# EAGLE library part HEADER-3X16 (library pixhawk2)
3x16 servo header
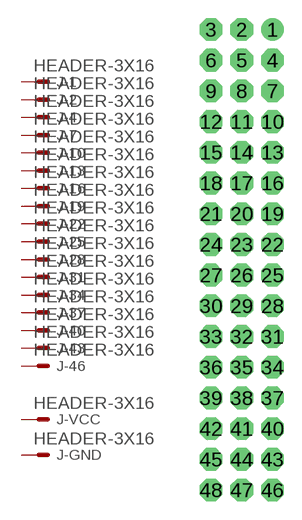
[diagram p91: symbol with the pads of 3X16RA; footprint 3X16RA]

Designator prefix J; gates -1=MV-1 -2=MV-1 -4=MV-1 -7=MV-1 -10=MV-1 -13=MV-1 -16=MV-1 -19=MV-1 -22=MV-1 -25=MV-1 -28=MV-1 -31=MV-1 -34=MV-1 -37=MV-1 -40=MV-1 -43=MV-1 -46=MV-1 -GND=MV-1 -VCC=MV-1

## HEADER-3X163X16RA  [3X16RA]
1  -1:S  pas
2  -2:S  pas
3  -GND:S  pas
4  -4:S  pas
5  -VCC:S  pas
6  -GND:S  pas
7  -7:S  pas
8  -VCC:S  pas
9  -GND:S  pas
10  -10:S  pas
11  -VCC:S  pas
12  -GND:S  pas
13  -13:S  pas
14  -VCC:S  pas
15  -GND:S  pas
16  -16:S  pas
17  -VCC:S  pas
18  -GND:S  pas
19  -19:S  pas
20  -VCC:S  pas
21  -GND:S  pas
22  -22:S  pas
23  -VCC:S  pas
24  -GND:S  pas
25  -25:S  pas
26  -VCC:S  pas
27  -GND:S  pas
28  -28:S  pas
29  -VCC:S  pas
30  -GND:S  pas
31  -31:S  pas
32  -VCC:S  pas
33  -GND:S  pas
34  -34:S  pas
35  -VCC:S  pas
36  -GND:S  pas
37  -37:S  pas
38  -VCC:S  pas
39  -GND:S  pas
40  -40:S  pas
41  -VCC:S  pas
42  -GND:S  pas
43  -43:S  pas
44  -VCC:S  pas
45  -GND:S  pas
46  -46:S  pas
47  -VCC:S  pas
48  -GND:S  pas

## Footprint 3X16RA (pad centres in mm)
drill 1.016 pad 1.88: 1 2.54,19.05
drill 1.016 pad 1.88 octagon: 2 0,19.05; 3 -2.54,19.05; 4 2.54,16.51; 5 0,16.51; 6 -2.54,16.51; 7 2.54,13.97; 8 0,13.97; 9 -2.54,13.97; 10 2.54,11.43; 11 0,11.43; 12 -2.54,11.43; 13 2.54,8.89; 14 0,8.89; 15 -2.54,8.89; 16 2.54,6.35; 17 0,6.35; 18 -2.54,6.35; 19 2.54,3.81; 20 0,3.81; 21 -2.54,3.81; 22 2.54,1.27; 23 0,1.27; 24 -2.54,1.27; 25 2.54,-1.27; 26 0,-1.27; 27 -2.54,-1.27; 28 2.54,-3.81; 29 0,-3.81; 30 -2.54,-3.81; 31 2.54,-6.35; 32 0,-6.35; 33 -2.54,-6.35; 34 2.54,-8.89; 35 0,-8.89; 36 -2.54,-8.89; 37 2.54,-11.43; 38 0,-11.43; 39 -2.54,-11.43; 40 2.54,-13.97; 41 0,-13.97; 42 -2.54,-13.97; 43 2.54,-16.51; 44 0,-16.51; 45 -2.54,-16.51; 46 2.54,-19.05; 47 0,-19.05; 48 -2.54,-19.05